# Altium integrated library Linear Technology Power Management LED Driver ICs.IntLib: 490 symbols (part 42 of 48)
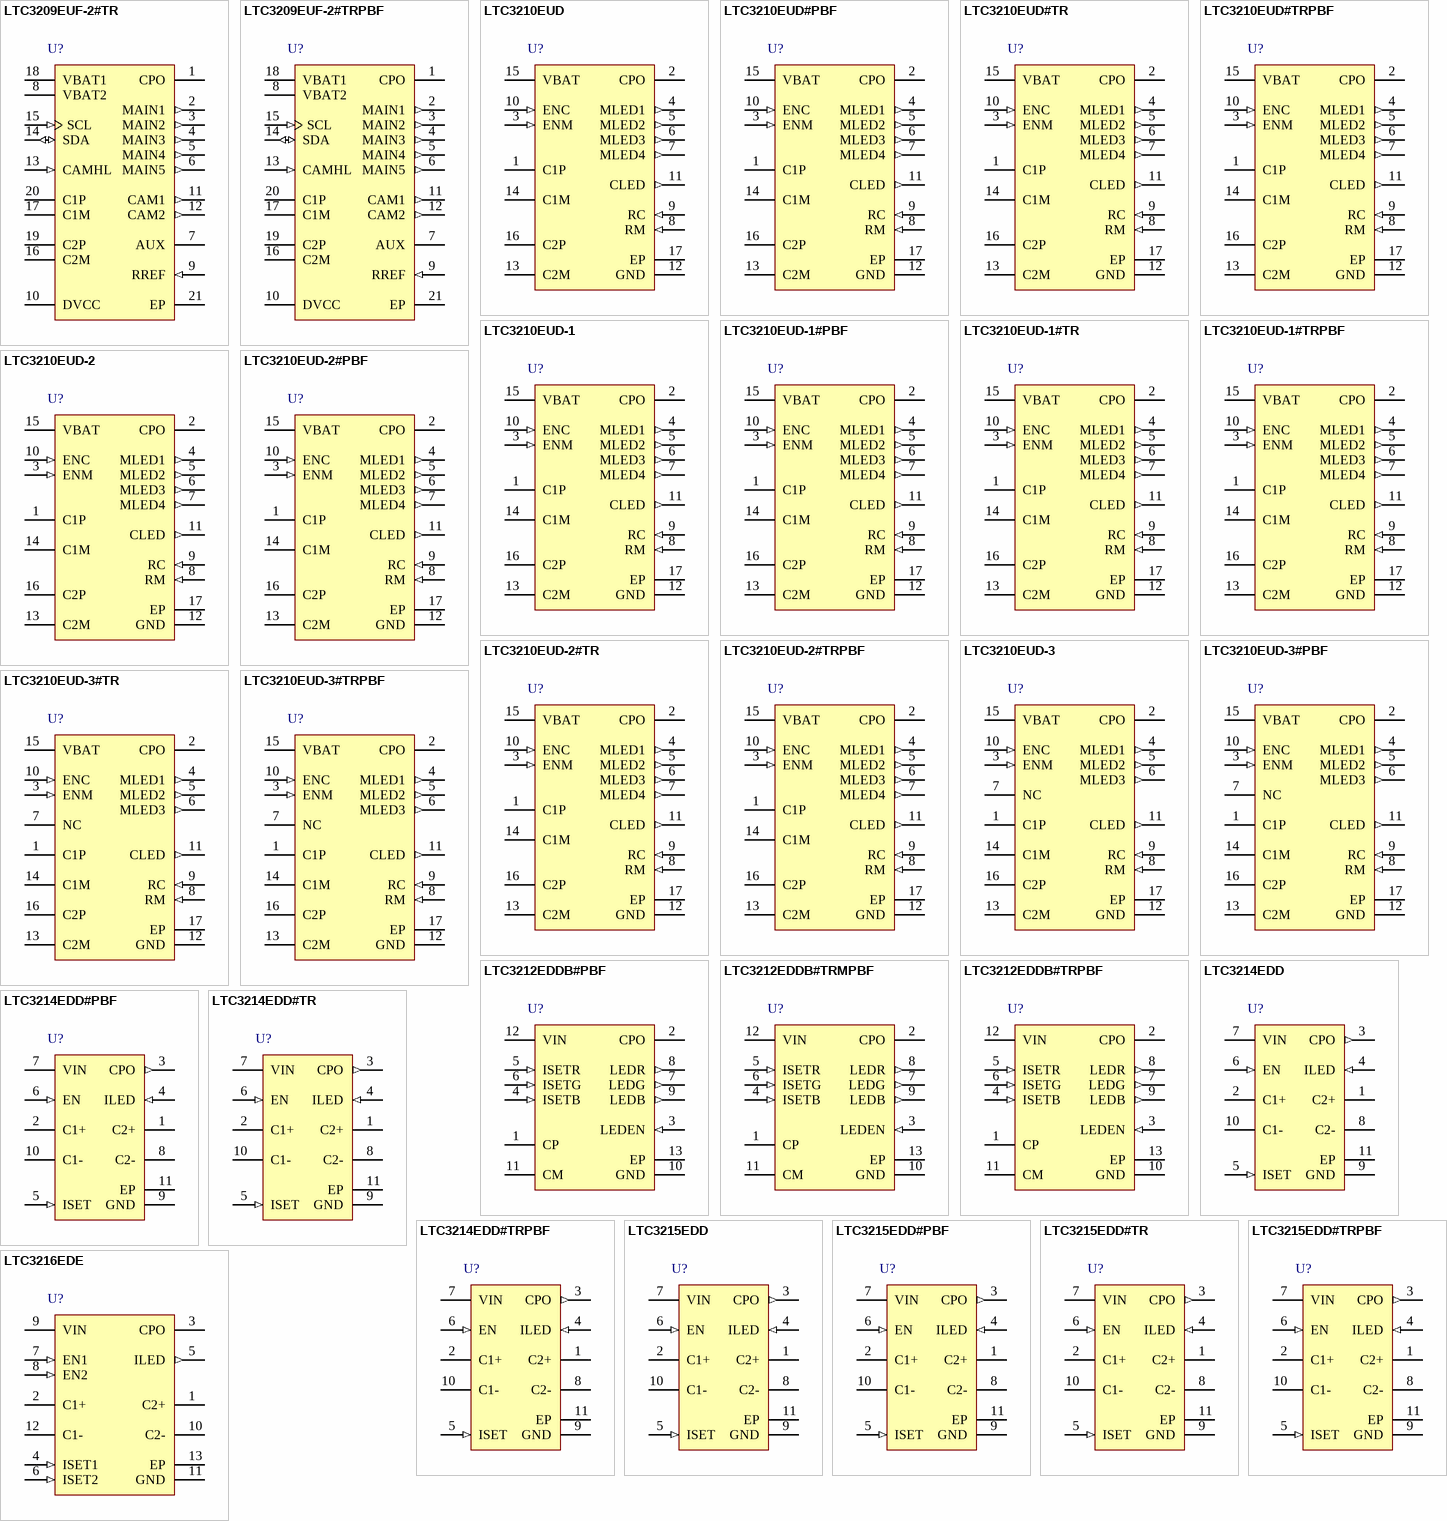
[diagram p61: symbols LTC3209EUF-2#TR to LTC3216EDE]

## LTC3210EUD-1#TR
designator U?
MAIN / CAM LED Controller with 64-Step Brightness Control, 2.9 to 4.5 V Vin, 16-pin QFN (UD-16), -40 to 85 degC, Tape and Reel; Manufacturer: Linear Technology; PartNumber: LTC3210EUD-1#TR; Topology: Charge Pump, LED Driver; Vin Min(V): 2.9; DatasheetVersion: Rev. D; PackageVersion: Jun-10; PackageReference: UD-16; PackageDescription: 16-Pin Plastic QFN, Body 3 x 3 mm, Pitch 0.5 mm; Packing: Tape and Reel; RoHS: FALSE; Mounting Technology: Surface Mount; Code_JEDEC: MO-220; ComponentLink1Description: Manufacturer URL; ComponentLink1URL: http://www.linear.com/; ComponentLink2Description: Datasheet; ComponentLink2URL: http://cds.linear.com/docs/en/datasheet/32101fd.pdf; ComponentLink3Description: Package Specification; ComponentLink3URL: http://cds.linear.com/docs/en/packaging/QFN_16_05-08-1691.pdf
footprint LT-UD-16_N (QFN, 16-Leads, Body 3x3mm, Pitch 0.5mm, Thermal Pad 1.45x1.45mm, IPC Medium Density)
footprint LT-UD-16_L (QFN, 16-Leads, Body 3x3mm, Pitch 0.5mm, Thermal Pad 1.45x1.45mm, IPC High Density)
footprint LT-UD-16_M (QFN, 16-Leads, Body 3x3mm, Pitch 0.5mm, Thermal Pad 1.45x1.45mm, IPC Low Density)
pins: 1 C1P "Charge Pump Flying Capacitor Pins. A 2.2uF X7R or X5R ceramic capacitor should be connected from C1P to C1M and C2P to C2M.", 2 CPO (power) "Output of the Charge Pump Used to Power All LEDs. This pin is enabled or disabled using the ENM and ENC inputs. A 2.2uF X5R or X7R ceramic capacitor should be connected to ground.", 3 ENM (in) "Inputs. The ENM and ENC pins are used to program the LED output currents. The ENC pin is strobed up to 7 times to decrement the internal 3-bit DAC’s from full-scale to 1 LSB. The ENM pin is strobed 63 times to decremen(See Datasheet)", 4 MLED1 (out), 5 MLED2 (out), 6 MLED3 (out), 7 MLED4 (out), 8 RM (in) "LED Current Programming Resistor Pins. The RM and RC pins will servo to 1.22V. Resistors connected between each of these pins and GND are used to set the high and low LED current levels. Connecting a resistor 12k or less (See Datasheet)", 9 RC (in) "LED Current Programming Resistor Pins. The RM and RC pins will servo to 1.22V. Resistors connected between each of these pins and GND are used to set the high and low LED current levels. Connecting a resistor 12k or less (See Datasheet)", 10 ENC (in) "Inputs. The ENM and ENC pins are used to program the LED output currents. The ENC pin is strobed up to 7 times to decrement the internal 3-bit DAC’s from full-scale to 1 LSB. The ENM pin is strobed 63 times to decremen(See Datasheet)", 11 CLED (out) "Output. CLED is the CAM current source output. The LED is connected between CPO (anode) and CLED (cathode). The current to the LED output is set via the ENC input, and the programming resistor connected between RC and GND.", 12 GND (power) "Ground. This pin should be connected to a low impedance ground plane", 13 C2M "Charge Pump Flying Capacitor Pins. A 2.2uF X7R or X5R ceramic capacitor should be connected from C1P to C1M and C2P to C2M.", 14 C1M "Charge Pump Flying Capacitor Pins. A 2.2uF X7R or X5R ceramic capacitor should be connected from C1P to C1M and C2P to C2M.", 15 VBAT (power) "Supply voltage. This pin should be bypassed with a 2.2uF, or greater low ESR ceramic capacitor", 16 C2P "Charge Pump Flying Capacitor Pins. A 2.2uF X7R or X5R ceramic capacitor should be connected from C1P to C1M and C2P to C2M.", 17 EP (power) "This pad should be connected directly to a low impedance ground plane for optimal thermal and electrical performance"

## LTC3210EUD-1#TRPBF
designator U?
MAIN / CAM LED Controller with 64-Step Brightness Control, 2.9 to 4.5 V Vin, 16-pin QFN (UD-16), -40 to 85 degC, Pb-Free, Tape and Reel; Manufacturer: Linear Technology; PartNumber: LTC3210EUD-1#TRPBF; Topology: Charge Pump, LED Driver; Vin Min(V): 2.9; DatasheetVersion: Rev. D; PackageVersion: Jun-10; PackageReference: UD-16; PackageDescription: 16-Pin Plastic QFN, Body 3 x 3 mm, Pitch 0.5 mm; Supplier 1: Digi-Key; Supplier Part Number 1: LTC3210EUD-1#TRPBF-ND; Packing: Tape and Reel; RoHS: TRUE; Mounting Technology: Surface Mount; Code_JEDEC: MO-220; ComponentLink1Description: Manufacturer URL; ComponentLink1URL: http://www.linear.com/; ComponentLink2Description: Datasheet; ComponentLink2URL: http://cds.linear.com/docs/en/datasheet/32101fd.pdf; ComponentLink3Description: Package Specification; ComponentLink3URL: http://cds.linear.com/docs/en/packaging/QFN_16_05-08-1691.pdf
footprint LT-UD-16_N (QFN, 16-Leads, Body 3x3mm, Pitch 0.5mm, Thermal Pad 1.45x1.45mm, IPC Medium Density)
footprint LT-UD-16_L (QFN, 16-Leads, Body 3x3mm, Pitch 0.5mm, Thermal Pad 1.45x1.45mm, IPC High Density)
footprint LT-UD-16_M (QFN, 16-Leads, Body 3x3mm, Pitch 0.5mm, Thermal Pad 1.45x1.45mm, IPC Low Density)
pins: 1 C1P "Charge Pump Flying Capacitor Pins. A 2.2uF X7R or X5R ceramic capacitor should be connected from C1P to C1M and C2P to C2M.", 2 CPO (power) "Output of the Charge Pump Used to Power All LEDs. This pin is enabled or disabled using the ENM and ENC inputs. A 2.2uF X5R or X7R ceramic capacitor should be connected to ground.", 3 ENM (in) "Inputs. The ENM and ENC pins are used to program the LED output currents. The ENC pin is strobed up to 7 times to decrement the internal 3-bit DAC’s from full-scale to 1 LSB. The ENM pin is strobed 63 times to decremen(See Datasheet)", 4 MLED1 (out), 5 MLED2 (out), 6 MLED3 (out), 7 MLED4 (out), 8 RM (in) "LED Current Programming Resistor Pins. The RM and RC pins will servo to 1.22V. Resistors connected between each of these pins and GND are used to set the high and low LED current levels. Connecting a resistor 12k or less (See Datasheet)", 9 RC (in) "LED Current Programming Resistor Pins. The RM and RC pins will servo to 1.22V. Resistors connected between each of these pins and GND are used to set the high and low LED current levels. Connecting a resistor 12k or less (See Datasheet)", 10 ENC (in) "Inputs. The ENM and ENC pins are used to program the LED output currents. The ENC pin is strobed up to 7 times to decrement the internal 3-bit DAC’s from full-scale to 1 LSB. The ENM pin is strobed 63 times to decremen(See Datasheet)", 11 CLED (out) "Output. CLED is the CAM current source output. The LED is connected between CPO (anode) and CLED (cathode). The current to the LED output is set via the ENC input, and the programming resistor connected between RC and GND.", 12 GND (power) "Ground. This pin should be connected to a low impedance ground plane", 13 C2M "Charge Pump Flying Capacitor Pins. A 2.2uF X7R or X5R ceramic capacitor should be connected from C1P to C1M and C2P to C2M.", 14 C1M "Charge Pump Flying Capacitor Pins. A 2.2uF X7R or X5R ceramic capacitor should be connected from C1P to C1M and C2P to C2M.", 15 VBAT (power) "Supply voltage. This pin should be bypassed with a 2.2uF, or greater low ESR ceramic capacitor", 16 C2P "Charge Pump Flying Capacitor Pins. A 2.2uF X7R or X5R ceramic capacitor should be connected from C1P to C1M and C2P to C2M.", 17 EP (power) "This pad should be connected directly to a low impedance ground plane for optimal thermal and electrical performance"

## LTC3210EUD-2
designator U?
MAIN / CAM LED Controller with 32-Step Brightness Control, 2.9 to 4.5 V Vin, 16-pin QFN (UD-16), -40 to 85 degC; Manufacturer: Linear Technology; PartNumber: LTC3210EUD-2; Topology: Charge Pump, LED Driver; Vin Min(V): 2.9; DatasheetVersion: Rev. B; PackageVersion: Jun-10; PackageReference: UD-16; PackageDescription: 16-Pin Plastic QFN, Body 3 x 3 mm, Pitch 0.5 mm; RoHS: FALSE; Mounting Technology: Surface Mount; Code_JEDEC: MO-220; ComponentLink1Description: Manufacturer URL; ComponentLink1URL: http://www.linear.com/; ComponentLink2Description: Datasheet; ComponentLink2URL: http://cds.linear.com/docs/en/datasheet/321023fb.pdf; ComponentLink3Description: Package Specification; ComponentLink3URL: http://cds.linear.com/docs/en/packaging/QFN_16_05-08-1691.pdf
footprint LT-UD-16_N (QFN, 16-Leads, Body 3x3mm, Pitch 0.5mm, Thermal Pad 1.45x1.45mm, IPC Medium Density)
footprint LT-UD-16_L (QFN, 16-Leads, Body 3x3mm, Pitch 0.5mm, Thermal Pad 1.45x1.45mm, IPC High Density)
footprint LT-UD-16_M (QFN, 16-Leads, Body 3x3mm, Pitch 0.5mm, Thermal Pad 1.45x1.45mm, IPC Low Density)
pins: 1 C1P "Charge Pump Flying Capacitor Pins. A 2.2uF X7R or X5R ceramic capacitor should be connected from C1P to C1M and C2P to C2M.", 2 CPO (power) "Output of the Charge Pump Used to Power All LEDs. This pin is enabled or disabled using the ENM and ENC inputs. A 2.2uF X5R or X7R ceramic capacitor should be connected to ground.", 3 ENM (in) "Inputs. The ENM and ENC pins are used to program the LED output currents. The ENC pin is strobed up to 7 times to decrement the internal 3-bit DAC’s from full-scale to 1 LSB. The ENM pin is strobed 63 times to decremen(See Datasheet)", 4 MLED1 (out), 5 MLED2 (out), 6 MLED3 (out), 7 MLED4 (out), 8 RM (in) "LED Current Programming Resistor Pins. The RM and RC pins will servo to 1.22V. Resistors connected between each of these pins and GND are used to set the high and low LED current levels. Connecting a resistor 12k or less (See Datasheet)", 9 RC (in) "LED Current Programming Resistor Pins. The RM and RC pins will servo to 1.22V. Resistors connected between each of these pins and GND are used to set the high and low LED current levels. Connecting a resistor 12k or less (See Datasheet)", 10 ENC (in) "Inputs. The ENM and ENC pins are used to program the LED output currents. The ENC pin is strobed up to 7 times to decrement the internal 3-bit DAC’s from full-scale to 1 LSB. The ENM pin is strobed 63 times to decremen(See Datasheet)", 11 CLED (out) "Output. CLED is the CAM current source output. The LED is connected between CPO (anode) and CLED (cathode). The current to the LED output is set via the ENC input, and the programming resistor connected between RC and GND.", 12 GND (power) "Ground. This pin should be connected to a low impedance ground plane", 13 C2M "Charge Pump Flying Capacitor Pins. A 2.2uF X7R or X5R ceramic capacitor should be connected from C1P to C1M and C2P to C2M.", 14 C1M "Charge Pump Flying Capacitor Pins. A 2.2uF X7R or X5R ceramic capacitor should be connected from C1P to C1M and C2P to C2M.", 15 VBAT (power) "Supply voltage. This pin should be bypassed with a 2.2uF, or greater low ESR ceramic capacitor", 16 C2P "Charge Pump Flying Capacitor Pins. A 2.2uF X7R or X5R ceramic capacitor should be connected from C1P to C1M and C2P to C2M.", 17 EP (power) "This pad should be connected directly to a low impedance ground plane for optimal thermal and electrical performance"

## LTC3210EUD-2#PBF
designator U?
MAIN / CAM LED Controller with 32-Step Brightness Control, 2.9 to 4.5 V Vin, 16-pin QFN (UD-16), -40 to 85 degC, Pb-Free; Manufacturer: Linear Technology; PartNumber: LTC3210EUD-2#PBF; Topology: Charge Pump, LED Driver; Vin Min(V): 2.9; DatasheetVersion: Rev. B; PackageVersion: Jun-10; PackageReference: UD-16; PackageDescription: 16-Pin Plastic QFN, Body 3 x 3 mm, Pitch 0.5 mm; Supplier 1: Digi-Key; Supplier Part Number 1: LTC3210EUD-2#PBF-ND; RoHS: TRUE; Mounting Technology: Surface Mount; Code_JEDEC: MO-220; ComponentLink1Description: Manufacturer URL; ComponentLink1URL: http://www.linear.com/; ComponentLink2Description: Datasheet; ComponentLink2URL: http://cds.linear.com/docs/en/datasheet/321023fb.pdf; ComponentLink3Description: Package Specification; ComponentLink3URL: http://cds.linear.com/docs/en/packaging/QFN_16_05-08-1691.pdf
footprint LT-UD-16_N (QFN, 16-Leads, Body 3x3mm, Pitch 0.5mm, Thermal Pad 1.45x1.45mm, IPC Medium Density)
footprint LT-UD-16_L (QFN, 16-Leads, Body 3x3mm, Pitch 0.5mm, Thermal Pad 1.45x1.45mm, IPC High Density)
footprint LT-UD-16_M (QFN, 16-Leads, Body 3x3mm, Pitch 0.5mm, Thermal Pad 1.45x1.45mm, IPC Low Density)
pins: 1 C1P "Charge Pump Flying Capacitor Pins. A 2.2uF X7R or X5R ceramic capacitor should be connected from C1P to C1M and C2P to C2M.", 2 CPO (power) "Output of the Charge Pump Used to Power All LEDs. This pin is enabled or disabled using the ENM and ENC inputs. A 2.2uF X5R or X7R ceramic capacitor should be connected to ground.", 3 ENM (in) "Inputs. The ENM and ENC pins are used to program the LED output currents. The ENC pin is strobed up to 7 times to decrement the internal 3-bit DAC’s from full-scale to 1 LSB. The ENM pin is strobed 63 times to decremen(See Datasheet)", 4 MLED1 (out), 5 MLED2 (out), 6 MLED3 (out), 7 MLED4 (out), 8 RM (in) "LED Current Programming Resistor Pins. The RM and RC pins will servo to 1.22V. Resistors connected between each of these pins and GND are used to set the high and low LED current levels. Connecting a resistor 12k or less (See Datasheet)", 9 RC (in) "LED Current Programming Resistor Pins. The RM and RC pins will servo to 1.22V. Resistors connected between each of these pins and GND are used to set the high and low LED current levels. Connecting a resistor 12k or less (See Datasheet)", 10 ENC (in) "Inputs. The ENM and ENC pins are used to program the LED output currents. The ENC pin is strobed up to 7 times to decrement the internal 3-bit DAC’s from full-scale to 1 LSB. The ENM pin is strobed 63 times to decremen(See Datasheet)", 11 CLED (out) "Output. CLED is the CAM current source output. The LED is connected between CPO (anode) and CLED (cathode). The current to the LED output is set via the ENC input, and the programming resistor connected between RC and GND.", 12 GND (power) "Ground. This pin should be connected to a low impedance ground plane", 13 C2M "Charge Pump Flying Capacitor Pins. A 2.2uF X7R or X5R ceramic capacitor should be connected from C1P to C1M and C2P to C2M.", 14 C1M "Charge Pump Flying Capacitor Pins. A 2.2uF X7R or X5R ceramic capacitor should be connected from C1P to C1M and C2P to C2M.", 15 VBAT (power) "Supply voltage. This pin should be bypassed with a 2.2uF, or greater low ESR ceramic capacitor", 16 C2P "Charge Pump Flying Capacitor Pins. A 2.2uF X7R or X5R ceramic capacitor should be connected from C1P to C1M and C2P to C2M.", 17 EP (power) "This pad should be connected directly to a low impedance ground plane for optimal thermal and electrical performance"

## LTC3210EUD-2#TR
designator U?
MAIN / CAM LED Controller with 32-Step Brightness Control, 2.9 to 4.5 V Vin, 16-pin QFN (UD-16), -40 to 85 degC, Tape and Reel; Manufacturer: Linear Technology; PartNumber: LTC3210EUD-2#TR; Topology: Charge Pump, LED Driver; Vin Min(V): 2.9; DatasheetVersion: Rev. B; PackageVersion: Jun-10; PackageReference: UD-16; PackageDescription: 16-Pin Plastic QFN, Body 3 x 3 mm, Pitch 0.5 mm; Packing: Tape and Reel; RoHS: FALSE; Mounting Technology: Surface Mount; Code_JEDEC: MO-220; ComponentLink1Description: Manufacturer URL; ComponentLink1URL: http://www.linear.com/; ComponentLink2Description: Datasheet; ComponentLink2URL: http://cds.linear.com/docs/en/datasheet/321023fb.pdf; ComponentLink3Description: Package Specification; ComponentLink3URL: http://cds.linear.com/docs/en/packaging/QFN_16_05-08-1691.pdf
footprint LT-UD-16_N (QFN, 16-Leads, Body 3x3mm, Pitch 0.5mm, Thermal Pad 1.45x1.45mm, IPC Medium Density)
footprint LT-UD-16_L (QFN, 16-Leads, Body 3x3mm, Pitch 0.5mm, Thermal Pad 1.45x1.45mm, IPC High Density)
footprint LT-UD-16_M (QFN, 16-Leads, Body 3x3mm, Pitch 0.5mm, Thermal Pad 1.45x1.45mm, IPC Low Density)
pins: 1 C1P "Charge Pump Flying Capacitor Pins. A 2.2uF X7R or X5R ceramic capacitor should be connected from C1P to C1M and C2P to C2M.", 2 CPO (power) "Output of the Charge Pump Used to Power All LEDs. This pin is enabled or disabled using the ENM and ENC inputs. A 2.2uF X5R or X7R ceramic capacitor should be connected to ground.", 3 ENM (in) "Inputs. The ENM and ENC pins are used to program the LED output currents. The ENC pin is strobed up to 7 times to decrement the internal 3-bit DAC’s from full-scale to 1 LSB. The ENM pin is strobed 63 times to decremen(See Datasheet)", 4 MLED1 (out), 5 MLED2 (out), 6 MLED3 (out), 7 MLED4 (out), 8 RM (in) "LED Current Programming Resistor Pins. The RM and RC pins will servo to 1.22V. Resistors connected between each of these pins and GND are used to set the high and low LED current levels. Connecting a resistor 12k or less (See Datasheet)", 9 RC (in) "LED Current Programming Resistor Pins. The RM and RC pins will servo to 1.22V. Resistors connected between each of these pins and GND are used to set the high and low LED current levels. Connecting a resistor 12k or less (See Datasheet)", 10 ENC (in) "Inputs. The ENM and ENC pins are used to program the LED output currents. The ENC pin is strobed up to 7 times to decrement the internal 3-bit DAC’s from full-scale to 1 LSB. The ENM pin is strobed 63 times to decremen(See Datasheet)", 11 CLED (out) "Output. CLED is the CAM current source output. The LED is connected between CPO (anode) and CLED (cathode). The current to the LED output is set via the ENC input, and the programming resistor connected between RC and GND.", 12 GND (power) "Ground. This pin should be connected to a low impedance ground plane", 13 C2M "Charge Pump Flying Capacitor Pins. A 2.2uF X7R or X5R ceramic capacitor should be connected from C1P to C1M and C2P to C2M.", 14 C1M "Charge Pump Flying Capacitor Pins. A 2.2uF X7R or X5R ceramic capacitor should be connected from C1P to C1M and C2P to C2M.", 15 VBAT (power) "Supply voltage. This pin should be bypassed with a 2.2uF, or greater low ESR ceramic capacitor", 16 C2P "Charge Pump Flying Capacitor Pins. A 2.2uF X7R or X5R ceramic capacitor should be connected from C1P to C1M and C2P to C2M.", 17 EP (power) "This pad should be connected directly to a low impedance ground plane for optimal thermal and electrical performance"

## LTC3210EUD-2#TRPBF
designator U?
MAIN / CAM LED Controller with 32-Step Brightness Control, 2.9 to 4.5 V Vin, 16-pin QFN (UD-16), -40 to 85 degC, Pb-Free, Tape and Reel; Manufacturer: Linear Technology; PartNumber: LTC3210EUD-2#TRPBF; Topology: Charge Pump, LED Driver; Vin Min(V): 2.9; DatasheetVersion: Rev. B; PackageVersion: Jun-10; PackageReference: UD-16; PackageDescription: 16-Pin Plastic QFN, Body 3 x 3 mm, Pitch 0.5 mm; Supplier 1: Digi-Key; Supplier Part Number 1: LTC3210EUD-2#TRPBF-ND; Packing: Tape and Reel; RoHS: TRUE; Mounting Technology: Surface Mount; Code_JEDEC: MO-220; ComponentLink1Description: Manufacturer URL; ComponentLink1URL: http://www.linear.com/; ComponentLink2Description: Datasheet; ComponentLink2URL: http://cds.linear.com/docs/en/datasheet/321023fb.pdf; ComponentLink3Description: Package Specification; ComponentLink3URL: http://cds.linear.com/docs/en/packaging/QFN_16_05-08-1691.pdf
footprint LT-UD-16_N (QFN, 16-Leads, Body 3x3mm, Pitch 0.5mm, Thermal Pad 1.45x1.45mm, IPC Medium Density)
footprint LT-UD-16_L (QFN, 16-Leads, Body 3x3mm, Pitch 0.5mm, Thermal Pad 1.45x1.45mm, IPC High Density)
footprint LT-UD-16_M (QFN, 16-Leads, Body 3x3mm, Pitch 0.5mm, Thermal Pad 1.45x1.45mm, IPC Low Density)
pins: 1 C1P "Charge Pump Flying Capacitor Pins. A 2.2uF X7R or X5R ceramic capacitor should be connected from C1P to C1M and C2P to C2M.", 2 CPO (power) "Output of the Charge Pump Used to Power All LEDs. This pin is enabled or disabled using the ENM and ENC inputs. A 2.2uF X5R or X7R ceramic capacitor should be connected to ground.", 3 ENM (in) "Inputs. The ENM and ENC pins are used to program the LED output currents. The ENC pin is strobed up to 7 times to decrement the internal 3-bit DAC’s from full-scale to 1 LSB. The ENM pin is strobed 63 times to decremen(See Datasheet)", 4 MLED1 (out), 5 MLED2 (out), 6 MLED3 (out), 7 MLED4 (out), 8 RM (in) "LED Current Programming Resistor Pins. The RM and RC pins will servo to 1.22V. Resistors connected between each of these pins and GND are used to set the high and low LED current levels. Connecting a resistor 12k or less (See Datasheet)", 9 RC (in) "LED Current Programming Resistor Pins. The RM and RC pins will servo to 1.22V. Resistors connected between each of these pins and GND are used to set the high and low LED current levels. Connecting a resistor 12k or less (See Datasheet)", 10 ENC (in) "Inputs. The ENM and ENC pins are used to program the LED output currents. The ENC pin is strobed up to 7 times to decrement the internal 3-bit DAC’s from full-scale to 1 LSB. The ENM pin is strobed 63 times to decremen(See Datasheet)", 11 CLED (out) "Output. CLED is the CAM current source output. The LED is connected between CPO (anode) and CLED (cathode). The current to the LED output is set via the ENC input, and the programming resistor connected between RC and GND.", 12 GND (power) "Ground. This pin should be connected to a low impedance ground plane", 13 C2M "Charge Pump Flying Capacitor Pins. A 2.2uF X7R or X5R ceramic capacitor should be connected from C1P to C1M and C2P to C2M.", 14 C1M "Charge Pump Flying Capacitor Pins. A 2.2uF X7R or X5R ceramic capacitor should be connected from C1P to C1M and C2P to C2M.", 15 VBAT (power) "Supply voltage. This pin should be bypassed with a 2.2uF, or greater low ESR ceramic capacitor", 16 C2P "Charge Pump Flying Capacitor Pins. A 2.2uF X7R or X5R ceramic capacitor should be connected from C1P to C1M and C2P to C2M.", 17 EP (power) "This pad should be connected directly to a low impedance ground plane for optimal thermal and electrical performance"

## LTC3210EUD-3
designator U?
MAIN / CAM LED Controller with 32-Step Brightness Control, 2.9 to 4.5 V Vin, 16-pin QFN (UD-16), -40 to 85 degC; Manufacturer: Linear Technology; PartNumber: LTC3210EUD-3; Topology: Charge Pump, LED Driver; Vin Min(V): 2.9; DatasheetVersion: Rev. B; PackageVersion: Jun-10; PackageReference: UD-16; PackageDescription: 16-Pin Plastic QFN, Body 3 x 3 mm, Pitch 0.5 mm; RoHS: FALSE; Mounting Technology: Surface Mount; Code_JEDEC: MO-220; ComponentLink1Description: Manufacturer URL; ComponentLink1URL: http://www.linear.com/; ComponentLink2Description: Datasheet; ComponentLink2URL: http://cds.linear.com/docs/en/datasheet/321023fb.pdf; ComponentLink3Description: Package Specification; ComponentLink3URL: http://cds.linear.com/docs/en/packaging/QFN_16_05-08-1691.pdf
footprint LT-UD-16_N (QFN, 16-Leads, Body 3x3mm, Pitch 0.5mm, Thermal Pad 1.45x1.45mm, IPC Medium Density)
footprint LT-UD-16_L (QFN, 16-Leads, Body 3x3mm, Pitch 0.5mm, Thermal Pad 1.45x1.45mm, IPC High Density)
footprint LT-UD-16_M (QFN, 16-Leads, Body 3x3mm, Pitch 0.5mm, Thermal Pad 1.45x1.45mm, IPC Low Density)
pins: 1 C1P "Charge Pump Flying Capacitor Pins. A 2.2uF X7R or X5R ceramic capacitor should be connected from C1P to C1M and C2P to C2M.", 2 CPO (power) "Output of the Charge Pump Used to Power All LEDs. This pin is enabled or disabled using the ENM and ENC inputs. A 2.2uF X5R or X7R ceramic capacitor should be connected to ground.", 3 ENM (in) "Inputs. The ENM and ENC pins are used to program the LED output currents. The ENC pin is strobed up to 7 times to decrement the internal 3-bit DAC’s from full-scale to 1LSB. The ENM pin is strobed 31 times to decrement th(See Datasheet)", 4 MLED1 (out) "Outputs. MLED1 to MLED3 are the MAIN current source outputs. The LEDs are connected between CPO (anodes) and MLED1-3 (cathodes). The current to each LED output is set via the ENM input, and the programming resisto(See Datasheet)", 5 MLED2 (out) "Outputs. MLED1 to MLED3 are the MAIN current source outputs. The LEDs are connected between CPO (anodes) and MLED1-3 (cathodes). The current to each LED output is set via the ENM input, and the programming resisto(See Datasheet)", 6 MLED3 (out) "Outputs. MLED1 to MLED3 are the MAIN current source outputs. The LEDs are connected between CPO (anodes) and MLED1-3 (cathodes). The current to each LED output is set via the ENM input, and the programming resisto(See Datasheet)", 7 NC "This pin is not connected and can be left floating or connected to ground.", 8 RM (in) "LED Current Programming Resistor Pins. The RM and RC pins will servo to 1.22V. Resistors connected between each of these pins and GND are used to set the high and low LED current levels. Connecting a resistor 15k or less (See Datasheet)", 9 RC (in) "LED Current Programming Resistor Pins. The RM and RC pins will servo to 1.22V. Resistors connected between each of these pins and GND are used to set the high and low LED current levels. Connecting a resistor 15k or less (See Datasheet)", 10 ENC (in) "Inputs. The ENM and ENC pins are used to program the LED output currents. The ENC pin is strobed up to 7 times to decrement the internal 3-bit DAC’s from full-scale to 1LSB. The ENM pin is strobed 31 times to decrement th(See Datasheet)", 11 CLED (out) "Output. CLED is the CAM current source output. The LED is connected between CPO (anode) and CLED (cathode). The current to the LED output is set via the ENC input, and the programming resistor connected between RC and GND.", 12 GND (power) "Ground. This pin should be connected to a low impedance ground plane.", 13 C2M "Charge Pump Flying Capacitor Pins. A 2.2uF X7R or X5R ceramic capacitor should be connected from C1P to C1M and C2P to C2M.", 14 C1M "Charge Pump Flying Capacitor Pins. A 2.2uF X7R or X5R ceramic capacitor should be connected from C1P to C1M and C2P to C2M.", 15 VBAT (power) "Supply voltage. This pin should be bypassed with a 2.2uF, or greater low ESR ceramic capacitor.", 16 C2P "Charge Pump Flying Capacitor Pins. A 2.2uF X7R or X5R ceramic capacitor should be connected from C1P to C1M and C2P to C2M.", 17 EP (power) "This pad should be connected directly to a low impedance ground plane for optimal thermal and electrical performance"

## LTC3210EUD-3#PBF
designator U?
MAIN / CAM LED Controller with 32-Step Brightness Control, 2.9 to 4.5 V Vin, 16-pin QFN (UD-16), -40 to 85 degC, Pb-Free; Manufacturer: Linear Technology; PartNumber: LTC3210EUD-3#PBF; Topology: Charge Pump, LED Driver; Vin Min(V): 2.9; DatasheetVersion: Rev. B; PackageVersion: Jun-10; PackageReference: UD-16; PackageDescription: 16-Pin Plastic QFN, Body 3 x 3 mm, Pitch 0.5 mm; Supplier 1: Digi-Key; Supplier Part Number 1: LTC3210EUD-3#PBF-ND; RoHS: TRUE; Mounting Technology: Surface Mount; Code_JEDEC: MO-220; ComponentLink1Description: Manufacturer URL; ComponentLink1URL: http://www.linear.com/; ComponentLink2Description: Datasheet; ComponentLink2URL: http://cds.linear.com/docs/en/datasheet/321023fb.pdf; ComponentLink3Description: Package Specification; ComponentLink3URL: http://cds.linear.com/docs/en/packaging/QFN_16_05-08-1691.pdf
footprint LT-UD-16_N (QFN, 16-Leads, Body 3x3mm, Pitch 0.5mm, Thermal Pad 1.45x1.45mm, IPC Medium Density)
footprint LT-UD-16_L (QFN, 16-Leads, Body 3x3mm, Pitch 0.5mm, Thermal Pad 1.45x1.45mm, IPC High Density)
footprint LT-UD-16_M (QFN, 16-Leads, Body 3x3mm, Pitch 0.5mm, Thermal Pad 1.45x1.45mm, IPC Low Density)
pins: 1 C1P "Charge Pump Flying Capacitor Pins. A 2.2uF X7R or X5R ceramic capacitor should be connected from C1P to C1M and C2P to C2M.", 2 CPO (power) "Output of the Charge Pump Used to Power All LEDs. This pin is enabled or disabled using the ENM and ENC inputs. A 2.2uF X5R or X7R ceramic capacitor should be connected to ground.", 3 ENM (in) "Inputs. The ENM and ENC pins are used to program the LED output currents. The ENC pin is strobed up to 7 times to decrement the internal 3-bit DAC’s from full-scale to 1LSB. The ENM pin is strobed 31 times to decrement th(See Datasheet)", 4 MLED1 (out) "Outputs. MLED1 to MLED3 are the MAIN current source outputs. The LEDs are connected between CPO (anodes) and MLED1-3 (cathodes). The current to each LED output is set via the ENM input, and the programming resisto(See Datasheet)", 5 MLED2 (out) "Outputs. MLED1 to MLED3 are the MAIN current source outputs. The LEDs are connected between CPO (anodes) and MLED1-3 (cathodes). The current to each LED output is set via the ENM input, and the programming resisto(See Datasheet)", 6 MLED3 (out) "Outputs. MLED1 to MLED3 are the MAIN current source outputs. The LEDs are connected between CPO (anodes) and MLED1-3 (cathodes). The current to each LED output is set via the ENM input, and the programming resisto(See Datasheet)", 7 NC "This pin is not connected and can be left floating or connected to ground.", 8 RM (in) "LED Current Programming Resistor Pins. The RM and RC pins will servo to 1.22V. Resistors connected between each of these pins and GND are used to set the high and low LED current levels. Connecting a resistor 15k or less (See Datasheet)", 9 RC (in) "LED Current Programming Resistor Pins. The RM and RC pins will servo to 1.22V. Resistors connected between each of these pins and GND are used to set the high and low LED current levels. Connecting a resistor 15k or less (See Datasheet)", 10 ENC (in) "Inputs. The ENM and ENC pins are used to program the LED output currents. The ENC pin is strobed up to 7 times to decrement the internal 3-bit DAC’s from full-scale to 1LSB. The ENM pin is strobed 31 times to decrement th(See Datasheet)", 11 CLED (out) "Output. CLED is the CAM current source output. The LED is connected between CPO (anode) and CLED (cathode). The current to the LED output is set via the ENC input, and the programming resistor connected between RC and GND.", 12 GND (power) "Ground. This pin should be connected to a low impedance ground plane.", 13 C2M "Charge Pump Flying Capacitor Pins. A 2.2uF X7R or X5R ceramic capacitor should be connected from C1P to C1M and C2P to C2M.", 14 C1M "Charge Pump Flying Capacitor Pins. A 2.2uF X7R or X5R ceramic capacitor should be connected from C1P to C1M and C2P to C2M.", 15 VBAT (power) "Supply voltage. This pin should be bypassed with a 2.2uF, or greater low ESR ceramic capacitor.", 16 C2P "Charge Pump Flying Capacitor Pins. A 2.2uF X7R or X5R ceramic capacitor should be connected from C1P to C1M and C2P to C2M.", 17 EP (power) "This pad should be connected directly to a low impedance ground plane for optimal thermal and electrical performance"

## LTC3210EUD-3#TR
designator U?
MAIN / CAM LED Controller with 32-Step Brightness Control, 2.9 to 4.5 V Vin, 16-pin QFN (UD-16), -40 to 85 degC, Tape and Reel; Manufacturer: Linear Technology; PartNumber: LTC3210EUD-3#TR; Topology: Charge Pump, LED Driver; Vin Min(V): 2.9; DatasheetVersion: Rev. B; PackageVersion: Jun-10; PackageReference: UD-16; PackageDescription: 16-Pin Plastic QFN, Body 3 x 3 mm, Pitch 0.5 mm; Packing: Tape and Reel; RoHS: FALSE; Mounting Technology: Surface Mount; Code_JEDEC: MO-220; ComponentLink1Description: Manufacturer URL; ComponentLink1URL: http://www.linear.com/; ComponentLink2Description: Datasheet; ComponentLink2URL: http://cds.linear.com/docs/en/datasheet/321023fb.pdf; ComponentLink3Description: Package Specification; ComponentLink3URL: http://cds.linear.com/docs/en/packaging/QFN_16_05-08-1691.pdf
footprint LT-UD-16_N (QFN, 16-Leads, Body 3x3mm, Pitch 0.5mm, Thermal Pad 1.45x1.45mm, IPC Medium Density)
footprint LT-UD-16_L (QFN, 16-Leads, Body 3x3mm, Pitch 0.5mm, Thermal Pad 1.45x1.45mm, IPC High Density)
footprint LT-UD-16_M (QFN, 16-Leads, Body 3x3mm, Pitch 0.5mm, Thermal Pad 1.45x1.45mm, IPC Low Density)
pins: 1 C1P "Charge Pump Flying Capacitor Pins. A 2.2uF X7R or X5R ceramic capacitor should be connected from C1P to C1M and C2P to C2M.", 2 CPO (power) "Output of the Charge Pump Used to Power All LEDs. This pin is enabled or disabled using the ENM and ENC inputs. A 2.2uF X5R or X7R ceramic capacitor should be connected to ground.", 3 ENM (in) "Inputs. The ENM and ENC pins are used to program the LED output currents. The ENC pin is strobed up to 7 times to decrement the internal 3-bit DAC’s from full-scale to 1LSB. The ENM pin is strobed 31 times to decrement th(See Datasheet)", 4 MLED1 (out) "Outputs. MLED1 to MLED3 are the MAIN current source outputs. The LEDs are connected between CPO (anodes) and MLED1-3 (cathodes). The current to each LED output is set via the ENM input, and the programming resisto(See Datasheet)", 5 MLED2 (out) "Outputs. MLED1 to MLED3 are the MAIN current source outputs. The LEDs are connected between CPO (anodes) and MLED1-3 (cathodes). The current to each LED output is set via the ENM input, and the programming resisto(See Datasheet)", 6 MLED3 (out) "Outputs. MLED1 to MLED3 are the MAIN current source outputs. The LEDs are connected between CPO (anodes) and MLED1-3 (cathodes). The current to each LED output is set via the ENM input, and the programming resisto(See Datasheet)", 7 NC "This pin is not connected and can be left floating or connected to ground.", 8 RM (in) "LED Current Programming Resistor Pins. The RM and RC pins will servo to 1.22V. Resistors connected between each of these pins and GND are used to set the high and low LED current levels. Connecting a resistor 15k or less (See Datasheet)", 9 RC (in) "LED Current Programming Resistor Pins. The RM and RC pins will servo to 1.22V. Resistors connected between each of these pins and GND are used to set the high and low LED current levels. Connecting a resistor 15k or less (See Datasheet)", 10 ENC (in) "Inputs. The ENM and ENC pins are used to program the LED output currents. The ENC pin is strobed up to 7 times to decrement the internal 3-bit DAC’s from full-scale to 1LSB. The ENM pin is strobed 31 times to decrement th(See Datasheet)", 11 CLED (out) "Output. CLED is the CAM current source output. The LED is connected between CPO (anode) and CLED (cathode). The current to the LED output is set via the ENC input, and the programming resistor connected between RC and GND.", 12 GND (power) "Ground. This pin should be connected to a low impedance ground plane.", 13 C2M "Charge Pump Flying Capacitor Pins. A 2.2uF X7R or X5R ceramic capacitor should be connected from C1P to C1M and C2P to C2M.", 14 C1M "Charge Pump Flying Capacitor Pins. A 2.2uF X7R or X5R ceramic capacitor should be connected from C1P to C1M and C2P to C2M.", 15 VBAT (power) "Supply voltage. This pin should be bypassed with a 2.2uF, or greater low ESR ceramic capacitor.", 16 C2P "Charge Pump Flying Capacitor Pins. A 2.2uF X7R or X5R ceramic capacitor should be connected from C1P to C1M and C2P to C2M.", 17 EP (power) "This pad should be connected directly to a low impedance ground plane for optimal thermal and electrical performance"

## LTC3210EUD-3#TRPBF
designator U?
MAIN / CAM LED Controller with 32-Step Brightness Control, 2.9 to 4.5 V Vin, 16-pin QFN (UD-16), -40 to 85 degC, Pb-Free, Tape and Reel; Manufacturer: Linear Technology; PartNumber: LTC3210EUD-3#TRPBF; Topology: Charge Pump, LED Driver; Vin Min(V): 2.9; DatasheetVersion: Rev. B; PackageVersion: Jun-10; PackageReference: UD-16; PackageDescription: 16-Pin Plastic QFN, Body 3 x 3 mm, Pitch 0.5 mm; Supplier 1: Digi-Key; Supplier Part Number 1: LTC3210EUD-3#TRPBF-ND; Packing: Tape and Reel; RoHS: TRUE; Mounting Technology: Surface Mount; Code_JEDEC: MO-220; ComponentLink1Description: Manufacturer URL; ComponentLink1URL: http://www.linear.com/; ComponentLink2Description: Datasheet; ComponentLink2URL: http://cds.linear.com/docs/en/datasheet/321023fb.pdf; ComponentLink3Description: Package Specification; ComponentLink3URL: http://cds.linear.com/docs/en/packaging/QFN_16_05-08-1691.pdf
footprint LT-UD-16_N (QFN, 16-Leads, Body 3x3mm, Pitch 0.5mm, Thermal Pad 1.45x1.45mm, IPC Medium Density)
footprint LT-UD-16_L (QFN, 16-Leads, Body 3x3mm, Pitch 0.5mm, Thermal Pad 1.45x1.45mm, IPC High Density)
footprint LT-UD-16_M (QFN, 16-Leads, Body 3x3mm, Pitch 0.5mm, Thermal Pad 1.45x1.45mm, IPC Low Density)
pins: 1 C1P "Charge Pump Flying Capacitor Pins. A 2.2uF X7R or X5R ceramic capacitor should be connected from C1P to C1M and C2P to C2M.", 2 CPO (power) "Output of the Charge Pump Used to Power All LEDs. This pin is enabled or disabled using the ENM and ENC inputs. A 2.2uF X5R or X7R ceramic capacitor should be connected to ground.", 3 ENM (in) "Inputs. The ENM and ENC pins are used to program the LED output currents. The ENC pin is strobed up to 7 times to decrement the internal 3-bit DAC’s from full-scale to 1LSB. The ENM pin is strobed 31 times to decrement th(See Datasheet)", 4 MLED1 (out) "Outputs. MLED1 to MLED3 are the MAIN current source outputs. The LEDs are connected between CPO (anodes) and MLED1-3 (cathodes). The current to each LED output is set via the ENM input, and the programming resisto(See Datasheet)", 5 MLED2 (out) "Outputs. MLED1 to MLED3 are the MAIN current source outputs. The LEDs are connected between CPO (anodes) and MLED1-3 (cathodes). The current to each LED output is set via the ENM input, and the programming resisto(See Datasheet)", 6 MLED3 (out) "Outputs. MLED1 to MLED3 are the MAIN current source outputs. The LEDs are connected between CPO (anodes) and MLED1-3 (cathodes). The current to each LED output is set via the ENM input, and the programming resisto(See Datasheet)", 7 NC "This pin is not connected and can be left floating or connected to ground.", 8 RM (in) "LED Current Programming Resistor Pins. The RM and RC pins will servo to 1.22V. Resistors connected between each of these pins and GND are used to set the high and low LED current levels. Connecting a resistor 15k or less (See Datasheet)", 9 RC (in) "LED Current Programming Resistor Pins. The RM and RC pins will servo to 1.22V. Resistors connected between each of these pins and GND are used to set the high and low LED current levels. Connecting a resistor 15k or less (See Datasheet)", 10 ENC (in) "Inputs. The ENM and ENC pins are used to program the LED output currents. The ENC pin is strobed up to 7 times to decrement the internal 3-bit DAC’s from full-scale to 1LSB. The ENM pin is strobed 31 times to decrement th(See Datasheet)", 11 CLED (out) "Output. CLED is the CAM current source output. The LED is connected between CPO (anode) and CLED (cathode). The current to the LED output is set via the ENC input, and the programming resistor connected between RC and GND.", 12 GND (power) "Ground. This pin should be connected to a low impedance ground plane.", 13 C2M "Charge Pump Flying Capacitor Pins. A 2.2uF X7R or X5R ceramic capacitor should be connected from C1P to C1M and C2P to C2M.", 14 C1M "Charge Pump Flying Capacitor Pins. A 2.2uF X7R or X5R ceramic capacitor should be connected from C1P to C1M and C2P to C2M.", 15 VBAT (power) "Supply voltage. This pin should be bypassed with a 2.2uF, or greater low ESR ceramic capacitor.", 16 C2P "Charge Pump Flying Capacitor Pins. A 2.2uF X7R or X5R ceramic capacitor should be connected from C1P to C1M and C2P to C2M.", 17 EP (power) "This pad should be connected directly to a low impedance ground plane for optimal thermal and electrical performance"

## LTC3212EDDB#PBF
designator U?
RGB LED Driver and Charge Pump, 2.7 to 5.5 V Vin, 5.5 V Vout MAX, 12-pin SON (DDB-12), -40 to 85 degC, Pb-Free; Manufacturer: Linear Technology; PartNumber: LTC3212EDDB#PBF; Topology: Charge Pump, LED Driver; Vin Min(V): 2.7; DatasheetVersion: Rev. B; PackageVersion: Rev. Ø, 06/2010; PackageReference: DDB-12; PackageDescription: 12-Pin Plastic DFN, Body 3 x 2 mm, Pitch 0.45 mm; Supplier 1: Newark; Supplier Part Number 1: 78T3162; RoHS: TRUE; Mounting Technology: Surface Mount; ComponentLink1Description: Manufacturer URL; ComponentLink1URL: http://www.linear.com/; ComponentLink2Description: Datasheet; ComponentLink2URL: http://cds.linear.com/docs/en/datasheet/3212fb.pdf; ComponentLink3Description: Package Specification; ComponentLink3URL: http://cds.linear.com/docs/en/packaging/DFN_12_05-08-1723.pdf
footprint LT-DDB-12_V (SON, 12-Leads, Body 3x2mm, Pitch 0.45mm, Thermal Pad 2.39x0.64mm)
pins: 1 CP "Charge Pump Flying Capacitor Pins. A 1uF X5R or X7R ceramic capacitor should be connected from CP to CM.", 2 CPO (hiz) "CPO is the output of the charge pump. A 1uF X5R or X7R ceramic capacitor is required from CPO to GND. While operating, this pin will supply current to the LEDs and while in shutdown mode this pin will be high impedance.", 3 LEDEN (in) "The LEDEN pin is used to program, enable and shut down the part. A 3uA internal current source pulls this pin to ground.", 4 ISETB (in) "LED current programming resistor pins. A resistor connected between a pin and GND is used to set the LED current. A resistor from ISETG to GND is required. Resistors on ISETR and ISETB are optional. If ISETR and/or ISETB is (See Datasheet)", 5 ISETR (in) "LED current programming resistor pins. A resistor connected between a pin and GND is used to set the LED current. A resistor from ISETG to GND is required. Resistors on ISETR and ISETB are optional. If ISETR and/or ISETB is (See Datasheet)", 6 ISETG (in) "LED current programming resistor pins. A resistor connected between a pin and GND is used to set the LED current. A resistor from ISETG to GND is required. Resistors on ISETR and ISETB are optional. If ISETR and/or ISETB is (See Datasheet)", 7 LEDG (out) "These pins are the LED current output pins. The LEDs are connected from either the charge pump or VIN (anode) to LED (R, G, B) (cathode).", 8 LEDR (out) "These pins are the LED current output pins. The LEDs are connected from either the charge pump or VIN (anode) to LED (R, G, B) (cathode).", 9 LEDB (out) "These pins are the LED current output pins. The LEDs are connected from either the charge pump or VIN (anode) to LED (R, G, B) (cathode).", 10 GND (power) "This pin should be connected directly to a low impedance ground plane.", 11 CM "Charge Pump Flying Capacitor Pins. A 1uF X5R or X7R ceramic capacitor should be connected from CP to CM.", 12 VIN (power) "Supply voltage for the LTC3212. VIN should be bypassed with a low impedance ceramic capacitor to GND of at least 1uF of capacitance.", 13 EP (power) "GND. The Exposed Pad must be soldered to a low impedance ground plane for optimum performance."

## LTC3212EDDB#TRMPBF
designator U?
RGB LED Driver and Charge Pump, 2.7 to 5.5 V Vin, 5.5 V Vout MAX, 12-pin SON (DDB-12), -40 to 85 degC, Pb-Free, Mini Tape and Reel; Manufacturer: Linear Technology; PartNumber: LTC3212EDDB#TRMPBF; Topology: Charge Pump, LED Driver; Vin Min(V): 2.7; DatasheetVersion: Rev. B; PackageVersion: Rev. Ø, 06/2010; PackageReference: DDB-12; PackageDescription: 12-Pin Plastic DFN, Body 3 x 2 mm, Pitch 0.45 mm; Supplier 1: Digi-Key; Supplier Part Number 1: LTC3212EDDB#TRMPBF-ND; Supplier 2: Newark; Supplier Part Number 2: 56M7414; Packing: Mini Tape and Reel; RoHS: TRUE; Mounting Technology: Surface Mount; ComponentLink1Description: Manufacturer URL; ComponentLink1URL: http://www.linear.com/; ComponentLink2Description: Datasheet; ComponentLink2URL: http://cds.linear.com/docs/en/datasheet/3212fb.pdf; ComponentLink3Description: Package Specification; ComponentLink3URL: http://cds.linear.com/docs/en/packaging/DFN_12_05-08-1723.pdf
footprint LT-DDB-12_V (SON, 12-Leads, Body 3x2mm, Pitch 0.45mm, Thermal Pad 2.39x0.64mm)
pins: 1 CP "Charge Pump Flying Capacitor Pins. A 1uF X5R or X7R ceramic capacitor should be connected from CP to CM.", 2 CPO (hiz) "CPO is the output of the charge pump. A 1uF X5R or X7R ceramic capacitor is required from CPO to GND. While operating, this pin will supply current to the LEDs and while in shutdown mode this pin will be high impedance.", 3 LEDEN (in) "The LEDEN pin is used to program, enable and shut down the part. A 3uA internal current source pulls this pin to ground.", 4 ISETB (in) "LED current programming resistor pins. A resistor connected between a pin and GND is used to set the LED current. A resistor from ISETG to GND is required. Resistors on ISETR and ISETB are optional. If ISETR and/or ISETB is (See Datasheet)", 5 ISETR (in) "LED current programming resistor pins. A resistor connected between a pin and GND is used to set the LED current. A resistor from ISETG to GND is required. Resistors on ISETR and ISETB are optional. If ISETR and/or ISETB is (See Datasheet)", 6 ISETG (in) "LED current programming resistor pins. A resistor connected between a pin and GND is used to set the LED current. A resistor from ISETG to GND is required. Resistors on ISETR and ISETB are optional. If ISETR and/or ISETB is (See Datasheet)", 7 LEDG (out) "These pins are the LED current output pins. The LEDs are connected from either the charge pump or VIN (anode) to LED (R, G, B) (cathode).", 8 LEDR (out) "These pins are the LED current output pins. The LEDs are connected from either the charge pump or VIN (anode) to LED (R, G, B) (cathode).", 9 LEDB (out) "These pins are the LED current output pins. The LEDs are connected from either the charge pump or VIN (anode) to LED (R, G, B) (cathode).", 10 GND (power) "This pin should be connected directly to a low impedance ground plane.", 11 CM "Charge Pump Flying Capacitor Pins. A 1uF X5R or X7R ceramic capacitor should be connected from CP to CM.", 12 VIN (power) "Supply voltage for the LTC3212. VIN should be bypassed with a low impedance ceramic capacitor to GND of at least 1uF of capacitance.", 13 EP (power) "GND. The Exposed Pad must be soldered to a low impedance ground plane for optimum performance."

## LTC3212EDDB#TRPBF
designator U?
RGB LED Driver and Charge Pump, 2.7 to 5.5 V Vin, 5.5 V Vout MAX, 12-pin SON (DDB-12), -40 to 85 degC, Pb-Free, Tape and Reel; Manufacturer: Linear Technology; PartNumber: LTC3212EDDB#TRPBF; Topology: Charge Pump, LED Driver; Vin Min(V): 2.7; DatasheetVersion: Rev. B; PackageVersion: Rev. Ø, 06/2010; PackageReference: DDB-12; PackageDescription: 12-Pin Plastic DFN, Body 3 x 2 mm, Pitch 0.45 mm; Supplier 1: Digi-Key; Supplier Part Number 1: LTC3212EDDB#TRPBF-ND; Packing: Tape and Reel; RoHS: TRUE; Mounting Technology: Surface Mount; ComponentLink1Description: Manufacturer URL; ComponentLink1URL: http://www.linear.com/; ComponentLink2Description: Datasheet; ComponentLink2URL: http://cds.linear.com/docs/en/datasheet/3212fb.pdf; ComponentLink3Description: Package Specification; ComponentLink3URL: http://cds.linear.com/docs/en/packaging/DFN_12_05-08-1723.pdf
footprint LT-DDB-12_V (SON, 12-Leads, Body 3x2mm, Pitch 0.45mm, Thermal Pad 2.39x0.64mm)
pins: 1 CP "Charge Pump Flying Capacitor Pins. A 1uF X5R or X7R ceramic capacitor should be connected from CP to CM.", 2 CPO (hiz) "CPO is the output of the charge pump. A 1uF X5R or X7R ceramic capacitor is required from CPO to GND. While operating, this pin will supply current to the LEDs and while in shutdown mode this pin will be high impedance.", 3 LEDEN (in) "The LEDEN pin is used to program, enable and shut down the part. A 3uA internal current source pulls this pin to ground.", 4 ISETB (in) "LED current programming resistor pins. A resistor connected between a pin and GND is used to set the LED current. A resistor from ISETG to GND is required. Resistors on ISETR and ISETB are optional. If ISETR and/or ISETB is (See Datasheet)", 5 ISETR (in) "LED current programming resistor pins. A resistor connected between a pin and GND is used to set the LED current. A resistor from ISETG to GND is required. Resistors on ISETR and ISETB are optional. If ISETR and/or ISETB is (See Datasheet)", 6 ISETG (in) "LED current programming resistor pins. A resistor connected between a pin and GND is used to set the LED current. A resistor from ISETG to GND is required. Resistors on ISETR and ISETB are optional. If ISETR and/or ISETB is (See Datasheet)", 7 LEDG (out) "These pins are the LED current output pins. The LEDs are connected from either the charge pump or VIN (anode) to LED (R, G, B) (cathode).", 8 LEDR (out) "These pins are the LED current output pins. The LEDs are connected from either the charge pump or VIN (anode) to LED (R, G, B) (cathode).", 9 LEDB (out) "These pins are the LED current output pins. The LEDs are connected from either the charge pump or VIN (anode) to LED (R, G, B) (cathode).", 10 GND (power) "This pin should be connected directly to a low impedance ground plane.", 11 CM "Charge Pump Flying Capacitor Pins. A 1uF X5R or X7R ceramic capacitor should be connected from CP to CM.", 12 VIN (power) "Supply voltage for the LTC3212. VIN should be bypassed with a low impedance ceramic capacitor to GND of at least 1uF of capacitance.", 13 EP (power) "GND. The Exposed Pad must be soldered to a low impedance ground plane for optimum performance."